# Altium footprint library XSTR.PcbLib: 36 footprints (part 1 of 3)
Each footprint in its own frame and in the unit in brackets; x right, y up, seen from the top. Pads: shape width x height; smd on the part's side, far side on the other; paste and mask are expansions set on the pad; w line width, h text height; cw(c..) or ccw(c..) is an arc to the next point about the centre after c.
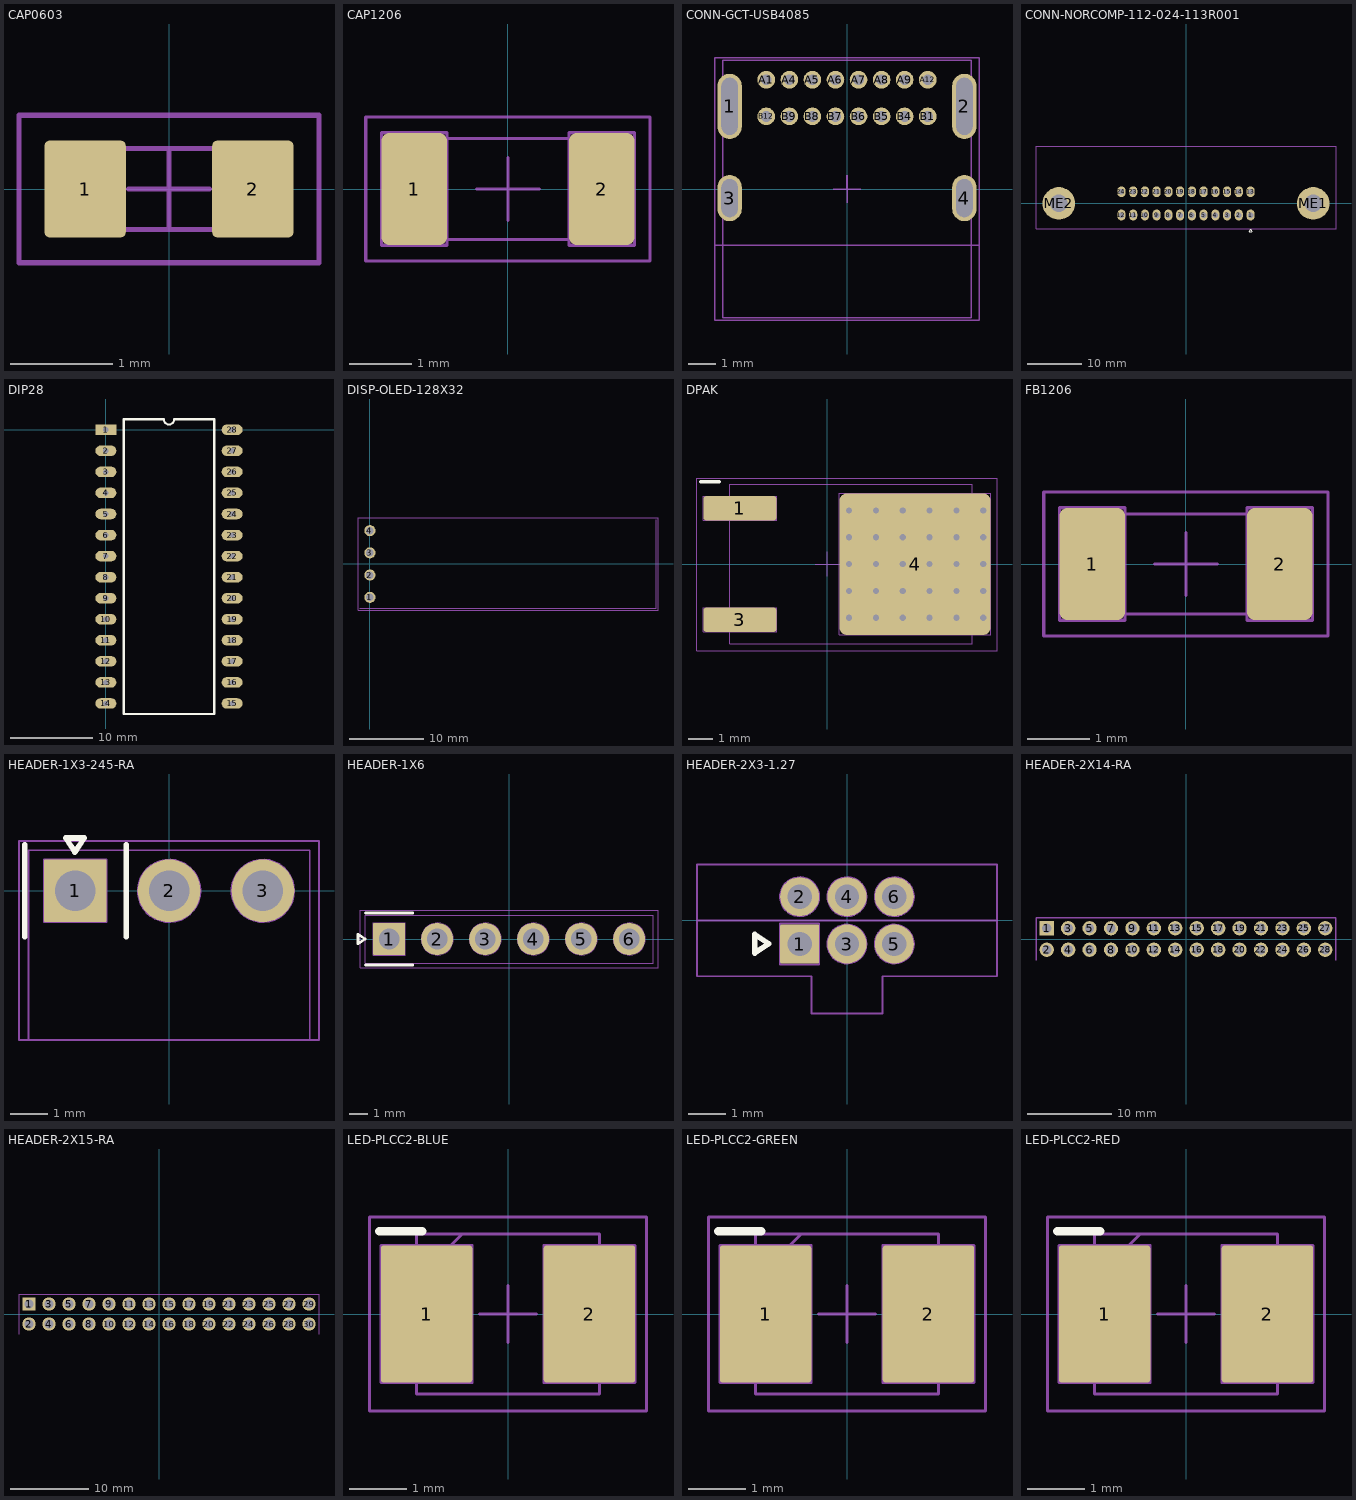
[diagram p0: the footprints below, top view; thin cyan lines are the x and y axes]

## CAP0603 [mm] "Chip Capacitor, 2-Leads, Body 1.60x0.80mm, IPC Medium Density"
height 0.8
pads (2):
  rrect12% 0.8x0.95 smd mask+0.05: 1(-0.825,0) 2(0.825,0)
Top Courtyard:
  lines w0.05: -0.4,0 0.4,0 ; 0,-0.4 0,0.4 ; -1.475,-0.725 -1.475,0.725 1.475,0.725 1.475,-0.725 -1.475,-0.725
Top Assembly:
  lines w0.05: -0.8,-0.4 -0.8,0.4 0.8,0.4 0.8,-0.4 -0.8,-0.4
3D body "CAPCP1608X08N.step": height 0.8, standoff 0, extent -0.8,-0.4 0.8,0.4

## CAP1206 [mm] "CAPACITOR, CHIP 1206 (3216) 0.85MM THICK"
height 0.86
pads (2):
  rrect25% 1.05x1.8 smd paste+0 mask+0.075: 1(-1.5,0) 2(1.5,0)
Top Courtyard:
  lines w0.05: -0.5,0 0,0 ; 0,-0.5 0,0 ; 0,0.5 0,0 ; 0.5,0 0,0 ; -2.275,-1.15 2.275,-1.15 2.275,1.15 -2.275,1.15 -2.275,-1.15
Top Assembly:
  lines w0.05: -2.025,-0.9 -0.975,-0.9 -0.975,0.9 -2.025,0.9 -2.025,-0.9 ; -1.61,-0.81 1.61,-0.81 1.61,0.81 -1.61,0.81 -1.61,-0.81 ; 0.975,-0.9 2.025,-0.9 2.025,0.9 0.975,0.9 0.975,-0.9
3D body "MLCC capacitor 1206 - 0.85mm .STEP": height 0.86, standoff -0.01, extent -1.61,-0.81 1.61,0.81

## CONN-GCT-USB4085 [mm]
pads (20):
  rrect100% 0.9x2.4 hole 2.1 slot 0.6 at 0 deg paste-2539.97 mask+0: 1(-4.325,3.045) 2(4.325,3.045)
  rrect100% 0.9x1.7 hole 1.4 slot 0.6 at 0 deg paste-2539.97 mask+0: 3(-4.325,-0.335) 4(4.325,-0.335)
  round 0.65 hole 0.4 paste-2539.97 mask+0: A1(-2.975,4.025) A4(-2.125,4.025) A5(-1.275,4.025) A6(-0.425,4.025) A7(0.425,4.025) A8(1.275,4.025) A9(2.125,4.025) A12(2.975,4.025) B1(2.975,2.675) B4(2.125,2.675) B5(1.275,2.675) B6(0.425,2.675) B7(-0.425,2.675) B8(-1.275,2.675) B9(-2.125,2.675) B12(-2.975,2.675)
Top Courtyard:
  lines w0.05: -0.491,-0.009 0.009,-0.009 0.009,-0.509 ; 0,0.5 0,0 0.5,0 ; -4.875,-4.835 4.875,-4.835 4.875,4.835 -4.875,4.835 -4.875,-4.835
Bottom Courtyard:
  lines w0.05: -4.875,-4.835 4.875,-4.835 4.875,4.835 -4.875,4.835 -4.875,-4.835
Top Assembly:
  lines w0.05: -4.875,-2.075 4.875,-2.075 ; -4.575,-4.735 4.575,-4.735 4.575,4.735 -4.575,4.735 -4.575,-4.735
Mechanical 16:
  lines w0.05: -0.5,0 0.5,0 ; 0,-0.5 0,0.5
3D body "Conn_GCT_USB4085-GF-A_eec.STEP": height 0.25, standoff 0, extent -4.875,-4.835 4.875,4.835

## CONN-NORCOMP-112-024-113R001 [mm] "GPIB MALE RA"
pads (26):
  oval 1.5x2 hole 1 paste-2539.97 mask+0.05: 1(11.874,-2.146) 2(9.716,-2.146) 3(7.556,-2.146) 4(5.397,-2.146) 5(3.238,-2.146) 6(1.079,-2.146) 7(-1.079,-2.146) 8(-3.238,-2.146) 9(-5.397,-2.146) 10(-7.556,-2.146) 11(-9.716,-2.146) 12(-11.874,-2.146) 13(11.874,2.146) 14(9.716,2.146) 15(7.556,2.146) 16(5.397,2.146) 17(3.238,2.146) 18(1.079,2.146) 19(-1.079,2.146) 20(-3.238,2.146) 21(-5.397,2.146) 22(-7.556,2.146) 23(-9.716,2.146) 24(-11.874,2.146)
  round 6 hole 3.2 paste-2539.97 mask+0.254: ME1(23.406,0) ME2(-23.406,0)
Top Overlay:
  lines w0.15: 11.625,-5.25 12.125,-5.25 11.875,-4.75 11.625,-5.25
Top Courtyard:
  lines w0.05: -27.6,-4.65 27.6,-4.65 27.6,10.541 -27.6,10.541 -27.6,-4.65
  text "BOARD EDGE" at -4.29,9.26 h1
3D body "112-024-113R001.STEP": height 15.61, standoff -4.49, extent -27.356,-4.4 27.344,20

## DIP28 [mm]
pads (28):
  rect 2.54x1.27 hole 0.635: 1(0,0)
  oval 2.54x1.27 hole 0.635: 2(0,-2.54) 3(0,-5.08) 4(0,-7.62) 5(0,-10.16) 6(0,-12.7) 7(0,-15.24) 8(0,-17.78) 9(0,-20.32) 10(0,-22.86) 11(0,-25.4) 12(0,-27.94) 13(0,-30.48) 14(0,-33.02) 15(15.24,-33.02) 16(15.24,-30.48) 17(15.24,-27.94) 18(15.24,-25.4) 19(15.24,-22.86) 20(15.24,-20.32) 21(15.24,-17.78) 22(15.24,-15.24) 23(15.24,-12.7) 24(15.24,-10.16) 25(15.24,-7.62) 26(15.24,-5.08) 27(15.24,-2.54) 28(15.24,0)
Top Overlay:
  lines w0.254: 2.159,-34.29 2.159,1.27 6.985,1.27 ccw(c7.62,1.27) 8.255,1.27 13.081,1.27 13.081,-34.29 2.159,-34.29

## DISP-OLED-128X32 [mm]
pads (4):
  round 1.5 hole 1 mask+0.05: 1(0,-4.5) 2(0,-1.5) 3(0,1.5) 4(0,4.5)
Top Courtyard:
  lines w0.05: -1.605,-6.253 38.895,-6.253 38.895,6.247 -1.605,6.247 -1.605,-6.253
Top Assembly:
  lines w0.05: 38.638,-6 -1.362,-6 38.638,-6 ; 38.638,-6 38.638,6 38.638,-6
3D body "User Library-OLED 32x 128.STEP": height 5.46, standoff -3.5, extent -1.362,-6 38.638,6

## DPAK [mm]
pads (3):
  rrect25% 3x1 smd mask+0.075: 1(-3.59,2.285) 3(-3.59,-2.285)
  rrect10% 6.2x5.8 smd paste-7 mask+0.075: 4(3.59,-0.005)
via 0.885,-2.205 diameter 0.6 hole 0.254
via 0.885,-0.005 diameter 0.6 hole 0.254
via 0.885,-1.105 diameter 0.6 hole 0.254
via 1.985,-2.205 diameter 0.6 hole 0.254
via 1.985,-0.005 diameter 0.6 hole 0.254
via 1.985,-1.105 diameter 0.6 hole 0.254
via 3.085,-2.205 diameter 0.6 hole 0.254
via 3.085,-0.005 diameter 0.6 hole 0.254
via 3.085,-1.105 diameter 0.6 hole 0.254
via 3.085,1.095 diameter 0.6 hole 0.254
via 1.985,1.095 diameter 0.6 hole 0.254
via 0.885,1.095 diameter 0.6 hole 0.254
via 3.085,2.195 diameter 0.6 hole 0.254
via 1.985,2.195 diameter 0.6 hole 0.254
via 0.885,2.195 diameter 0.6 hole 0.254
via 4.185,2.195 diameter 0.6 hole 0.254
via 4.185,1.095 diameter 0.6 hole 0.254
via 4.185,-1.105 diameter 0.6 hole 0.254
via 4.185,-0.005 diameter 0.6 hole 0.254
via 4.185,-2.205 diameter 0.6 hole 0.254
via 5.285,2.195 diameter 0.6 hole 0.254
via 5.285,1.095 diameter 0.6 hole 0.254
via 5.285,-1.105 diameter 0.6 hole 0.254
via 5.285,-0.005 diameter 0.6 hole 0.254
via 5.285,-2.205 diameter 0.6 hole 0.254
via 6.385,2.195 diameter 0.6 hole 0.254
via 6.385,1.095 diameter 0.6 hole 0.254
via 6.385,-1.105 diameter 0.6 hole 0.254
via 6.385,-0.005 diameter 0.6 hole 0.254
via 6.385,-2.205 diameter 0.6 hole 0.254
Top Overlay:
  lines w0.152: -5.2,3.375 -4.45,3.375
Top Paste:
  rectangle: 1.085,-2.005 1.785,-1.305
  rectangle: 1.085,0.195 1.785,0.895
  rectangle: 1.085,-0.905 1.785,-0.205
  rectangle: 2.185,-2.005 2.885,-1.305
  rectangle: 2.185,0.195 2.885,0.895
  rectangle: 2.185,-0.905 2.885,-0.205
  rectangle: 3.285,-2.005 3.985,-1.305
  rectangle: 3.285,0.195 3.985,0.895
  rectangle: 3.285,-0.905 3.985,-0.205
  rectangle: 3.285,1.295 3.985,1.995
  rectangle: 2.185,1.295 2.885,1.995
  rectangle: 1.085,1.295 1.785,1.995
  rectangle: 3.285,2.395 3.985,2.9
  rectangle: 2.185,2.395 2.885,2.9
  rectangle: 1.085,2.395 1.785,2.9
  rectangle: 4.385,2.395 5.085,2.9
  rectangle: 4.385,1.295 5.085,1.995
  rectangle: 4.385,-0.905 5.085,-0.205
  rectangle: 4.385,0.195 5.085,0.895
  rectangle: 4.385,-2.005 5.085,-1.305
  rectangle: 5.46,2.375 6.16,2.9
  rectangle: 5.485,1.295 6.185,1.995
  rectangle: 5.485,-0.905 6.185,-0.205
  rectangle: 5.485,0.195 6.185,0.895
  rectangle: 5.485,-2.005 6.185,-1.305
  region: 6.185,-2.405 5.485,-2.405 5.485,-2.9 6.185,-2.9
  region: 5.085,-2.405 4.385,-2.405 4.385,-2.9 5.085,-2.9
  region: 3.985,-2.405 3.285,-2.405 3.285,-2.9 3.985,-2.9
  region: 2.885,-2.405 2.185,-2.405 2.185,-2.9 2.885,-2.9
  region: 1.785,-2.405 1.085,-2.405 1.085,-2.9 1.785,-2.9
Top Courtyard:
  lines w0.05: -0.5,0 0,0 ; 0,-0.5 0,0 ; 0,0.5 0,0 ; 0.5,0 0,0 ; -5.35,-3.55 6.95,-3.55 6.95,3.525 -5.35,3.525 -5.35,-3.55
Top Assembly:
  lines w0.05: -5.09,-2.785 -2.09,-2.785 -2.09,-1.785 -5.09,-1.785 -5.09,-2.785 ; -5.09,1.785 -2.09,1.785 -2.09,2.785 -5.09,2.785 -5.09,1.785 ; -4.011,-3.28 5.928,-3.28 5.928,3.26 -4.011,3.26 -4.011,-3.28 ; 0.49,-2.905 6.69,-2.905 6.69,2.895 0.49,2.895 0.49,-2.905
  text "1" at -5.09,1.785 h0.3
3D body "DPAK.step": height 2.34, standoff -0.07, extent -4.008,-3.276 5.931,3.264

## FB1206 [mm] "FERRITE BEAD, CHIP 1206 (3216)"
height 1.3
pads (2):
  rrect25% 1.05x1.8 smd paste+0 mask+0.075: 1(-1.5,0) 2(1.5,0)
Top Courtyard:
  lines w0.05: -0.5,0 0,0 ; 0,-0.5 0,0 ; 0,0.5 0,0 ; 0.5,0 0,0 ; -2.275,-1.15 2.275,-1.15 2.275,1.15 -2.275,1.15 -2.275,-1.15
Top Assembly:
  lines w0.05: -2.025,-0.9 -0.975,-0.9 -0.975,0.9 -2.025,0.9 -2.025,-0.9 ; -1.6,-0.8 1.6,-0.8 1.6,0.8 -1.6,0.8 -1.6,-0.8 ; 0.975,-0.9 2.025,-0.9 2.025,0.9 0.975,0.9 0.975,-0.9
3D body "Chip Inductor 3216.STEP": height 1.3, standoff 0, extent -1.6,-0.8 1.6,0.8

## HEADER-1X3-245-RA [mm]
pads (3):
  rrect5% 1.7x1.7 hole 1.1 mask+0.05: 1(-2.54,0)
  round 1.7 hole 1.1 mask+0.05: 2(0,0) 3(2.54,0)
Top Overlay:
  lines w0.15: -3.915,-1.25 -3.915,0 -3.915,1.25 ; -1.165,-1.25 -1.165,0 -1.165,1.25 ; -2.8,1.43 -2.55,1.05 -2.3,1.43 -2.8,1.43
Top Courtyard:
  lines w0.05: -4.065,-4.04 4.06,-4.04 4.06,1.35 -4.065,1.35 -4.065,-4.04
Top Assembly:
  circle w0.05: c-2.54,0 r0.551
  circle w0.05: c0,0 r0.85
  circle w0.05: c0,0 r0.535
  circle w0.05: c2.54,0 r0.85
  circle w0.05: c2.54,0 r0.535
  lines w0.05: -3.81,-4.04 -3.81,1.1 3.81,1.1 3.81,-4.04 -3.81,-4.04 ; -3.39,-0.85 -3.39,0.85 -2.54,0.85 -1.69,0.85 -1.69,-0.85 -3.39,-0.85
3D body "61300311021_Download_STP_61300311021_rev1.stp": height 2.55, standoff -2.99, extent -3.81,-10.04 3.81,0.32

## HEADER-1X6 [mm]
pads (6):
  rrect5% 1.7x1.7 hole 1.1 mask+0.05: 1(-6.35,0)
  round 1.7 hole 1.1 mask+0.05: 2(-3.81,0) 3(-1.27,0) 4(1.27,0) 5(3.81,0) 6(6.35,0)
Top Overlay:
  lines w0.15: -7.6,-1.375 -6.35,-1.375 -5.1,-1.375 ; -7.6,1.375 -6.35,1.375 -5.1,1.375 ; -8,-0.25 -8,0.25 -7.62,0 -8,-0.25
Top Courtyard:
  lines w0.05: -7.875,-1.525 -7.875,1.525 7.875,1.525 7.875,-1.525 -7.875,-1.525
Top Assembly:
  circle w0.05: c6.35,0 r0.535
  circle w0.05: c6.35,0 r0.85
  circle w0.05: c3.81,0 r0.535
  circle w0.05: c3.81,0 r0.85
  circle w0.05: c1.27,0 r0.535
  circle w0.05: c1.27,0 r0.85
  circle w0.05: c-1.27,0 r0.535
  circle w0.05: c-1.27,0 r0.85
  circle w0.05: c-3.81,0 r0.535
  circle w0.05: c-3.81,0 r0.85
  circle w0.05: c-6.35,0 r0.551
  lines w0.05: -7.62,-1.27 7.62,-1.27 7.62,1.27 -7.62,1.27 -7.62,-1.27 ; -7.2,-0.85 -5.5,-0.85 -5.5,0.85 -6.35,0.85 -7.2,0.85 -7.2,-0.85
3D body "61300611121_Download_STP_61300611121_rev1.stp": height 8.55, standoff -2.99, extent -7.62,-1.27 7.62,1.27

## HEADER-2X3-1.27 [mm]
pads (6):
  rrect9% 1.05x1.05 hole 0.65 mask+0.05: 1(-1.27,-0.635)
  round 1.05 hole 0.65 mask+0.05: 2(-1.27,0.635) 3(0,-0.635) 4(0,0.635) 5(1.27,-0.635) 6(1.27,0.635)
Top Overlay:
  lines w0.15: -2.48,-0.875 -2.1,-0.625 -2.48,-0.375 -2.48,-0.875
Top Courtyard:
  lines w0.05: -4.025,0 -4.025,1.5 4.025,1.5 4.025,0 ; -4.025,0 0,0 4.025,0 ; -4.025,0 -4.025,-1.5 -0.95,-1.5 -0.95,-2.5 0.95,-2.5 0.95,-1.5 4.025,-1.5 4.025,0
Top Assembly:
  circle w0.05: c1.27,-0.635 r0.32
  circle w0.05: c1.27,0.635 r0.32
  circle w0.05: c0,0.635 r0.32
  circle w0.05: c0,-0.635 r0.32
  circle w0.05: c-1.27,-0.635 r0.32
  circle w0.05: c-1.27,0.635 r0.32
  circle w0.05: c-1.27,0.635 r0.526
  circle w0.05: c0,0.635 r0.526
  circle w0.05: c1.27,0.635 r0.525
  circle w0.05: c1.27,-0.635 r0.525
  circle w0.05: c0,-0.635 r0.525
  lines w0.05: -1.795,-1.185 -0.745,-1.185 -0.745,-0.085 -1.27,-0.085 -1.795,-0.085 -1.795,-1.185
3D body "HPH2-A-06-UA.STEP": height 3.81, standoff -2.49, extent -1.905,-1.725 1.905,1.725

## HEADER-2X14-RA [mm]
pads (28):
  rrect5% 1.7x1.7 hole 1.1 mask+0.05: 1(-16.51,1.27)
  round 1.7 hole 1.1 mask+0.05: 2(-16.51,-1.27) 3(-13.97,1.27) 4(-13.97,-1.27) 5(-11.43,1.27) 6(-11.43,-1.27) 7(-8.89,1.27) 8(-8.89,-1.27) 9(-6.35,1.27) 10(-6.35,-1.27) 11(-3.81,1.27) 12(-3.81,-1.27) 13(-1.27,1.27) 14(-1.27,-1.27) 15(1.27,1.27) 16(1.27,-1.27) 17(3.81,1.27) 18(3.81,-1.27) 19(6.35,1.27) 20(6.35,-1.27) 21(8.89,1.27) 22(8.89,-1.27) 23(11.43,1.27) 24(11.43,-1.27) 25(13.97,1.27) 26(13.97,-1.27) 27(16.51,1.27) 28(16.51,-1.27)
Top Assembly:
  lines w0.15: -17.78,-2.54 -17.78,2.54 17.78,2.54 17.78,-2.54

## HEADER-2X15-RA [mm]
pads (30):
  rrect5% 1.7x1.7 hole 1.1 mask+0.05: 1(-16.51,1.27)
  round 1.7 hole 1.1 mask+0.05: 2(-16.51,-1.27) 3(-13.97,1.27) 4(-13.97,-1.27) 5(-11.43,1.27) 6(-11.43,-1.27) 7(-8.89,1.27) 8(-8.89,-1.27) 9(-6.35,1.27) 10(-6.35,-1.27) 11(-3.81,1.27) 12(-3.81,-1.27) 13(-1.27,1.27) 14(-1.27,-1.27) 15(1.27,1.27) 16(1.27,-1.27) 17(3.81,1.27) 18(3.81,-1.27) 19(6.35,1.27) 20(6.35,-1.27) 21(8.89,1.27) 22(8.89,-1.27) 23(11.43,1.27) 24(11.43,-1.27) 25(13.97,1.27) 26(13.97,-1.27) 27(16.51,1.27) 28(16.51,-1.27) 29(19.05,1.27) 30(19.05,-1.27)
Top Assembly:
  lines w0.15: -17.78,-2.54 -17.78,2.54 20.32,2.54 20.32,-2.54

## LED-PLCC2-BLUE [mm] "SMD Mono-color TOP LED, body 3.2x2.8mm"
height 1.9
pads (2):
  rrect6% 1.6x2.4 smd mask+0.05: 1(-1.425,0) 2(1.425,0)
Top Overlay:
  lines w0.15: -2.25,1.45 -1.5,1.45
Top Courtyard:
  lines w0.05: -0.5,0 0.5,0 ; 0,-0.5 0,0.5 ; -2.425,-1.7 2.425,-1.7 2.425,1.7 -2.425,1.7 -2.425,-1.7
Top Assembly:
  lines w0.05: -1.6,0.6 -0.8,1.4 ; -2.225,-1.2 -0.625,-1.2 -0.625,1.2 -1.425,1.2 -2.225,1.2 -2.225,-1.2 ; -1.6,-1.4 1.6,-1.4 1.6,1.4 -1.6,1.4 -1.6,-1.4 ; 0.625,-1.2 2.225,-1.2 2.225,1.2 1.425,1.2 0.625,1.2 0.625,0 0.625,-1.2
  text "K" at -2.225,-1.185 h2
3D body: height 1.27, standoff 0, extent -1,-1 1,1
3D body "150141xxx73113.stp": height 1.9, standoff 0, extent -1.75,-1.4 1.75,1.4

## LED-PLCC2-GREEN [mm] "SMD Mono-color TOP LED, body 3.2x2.8mm"
height 1.9
pads (2):
  rrect6% 1.6x2.4 smd mask+0.05: 1(-1.425,0) 2(1.425,0)
Top Overlay:
  lines w0.15: -2.25,1.45 -1.5,1.45
Top Courtyard:
  lines w0.05: -0.5,0 0.5,0 ; 0,-0.5 0,0.5 ; -2.425,-1.7 2.425,-1.7 2.425,1.7 -2.425,1.7 -2.425,-1.7
Top Assembly:
  lines w0.05: -1.6,0.6 -0.8,1.4 ; -2.225,-1.2 -0.625,-1.2 -0.625,1.2 -1.425,1.2 -2.225,1.2 -2.225,-1.2 ; -1.6,-1.4 1.6,-1.4 1.6,1.4 -1.6,1.4 -1.6,-1.4 ; 0.625,-1.2 2.225,-1.2 2.225,1.2 1.425,1.2 0.625,1.2 0.625,0 0.625,-1.2
  text "K" at -2.225,-1.185 h2
3D body: height 1.27, standoff 0, extent -1,-1 1,1
3D body "150141xxx73113.stp": height 1.9, standoff 0, extent -1.75,-1.4 1.75,1.4

## LED-PLCC2-RED [mm] "SMD Mono-color TOP LED, body 3.2x2.8mm"
height 1.9
pads (2):
  rrect6% 1.6x2.4 smd mask+0.05: 1(-1.425,0) 2(1.425,0)
Top Overlay:
  lines w0.15: -2.25,1.45 -1.5,1.45
Top Courtyard:
  lines w0.05: -0.5,0 0.5,0 ; 0,-0.5 0,0.5 ; -2.425,-1.7 2.425,-1.7 2.425,1.7 -2.425,1.7 -2.425,-1.7
Top Assembly:
  lines w0.05: -1.6,0.6 -0.8,1.4 ; -2.225,-1.2 -0.625,-1.2 -0.625,1.2 -1.425,1.2 -2.225,1.2 -2.225,-1.2 ; -1.6,-1.4 1.6,-1.4 1.6,1.4 -1.6,1.4 -1.6,-1.4 ; 0.625,-1.2 2.225,-1.2 2.225,1.2 1.425,1.2 0.625,1.2 0.625,0 0.625,-1.2
  text "K" at -2.225,-1.185 h2
3D body: height 1.27, standoff 0, extent -1,-1 1,1
3D body "150141xxx73113.stp": height 1.9, standoff 0, extent -1.75,-1.4 1.75,1.4